# EAGLE library part 828214-8 (library Softgalaxy Pi HAT Lib-Eagle)
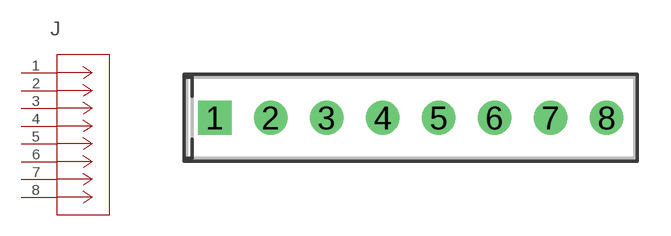
[diagram p5: symbol with the pads of CON8_1X8_P100UM_HDR; footprint CON8_1X8_P100UM_HDR]

Designator prefix J

## 828214-8 (COPYRIGHT: Copyright (C) 2021 Ultra Librarian. All rights reserved.; MANUFACTURER_PART_NUMBER: 828214-8; MFR_NAME: TE Connectivity)  [CON8_1X8_P100UM_HDR]
1  1  pas
2  2  pas
3  3  pas
4  4  pas
5  5  pas
6  6  pas
7  7  pas
8  8  pas

## Footprint CON8_1X8_P100UM_HDR (pad centres in mm)
drill 0.965 pad 1.524 square: 1 -17.78,0
drill 0.965 pad 1.524: 2 -15.24,0; 3 -12.7,0; 4 -10.16,0; 5 -7.62,0; 6 -5.08,0; 7 -2.54,0; 8 0,0